# EAGLE library part LTC2804CGN-1#PBF (library circuit_tree)
IC
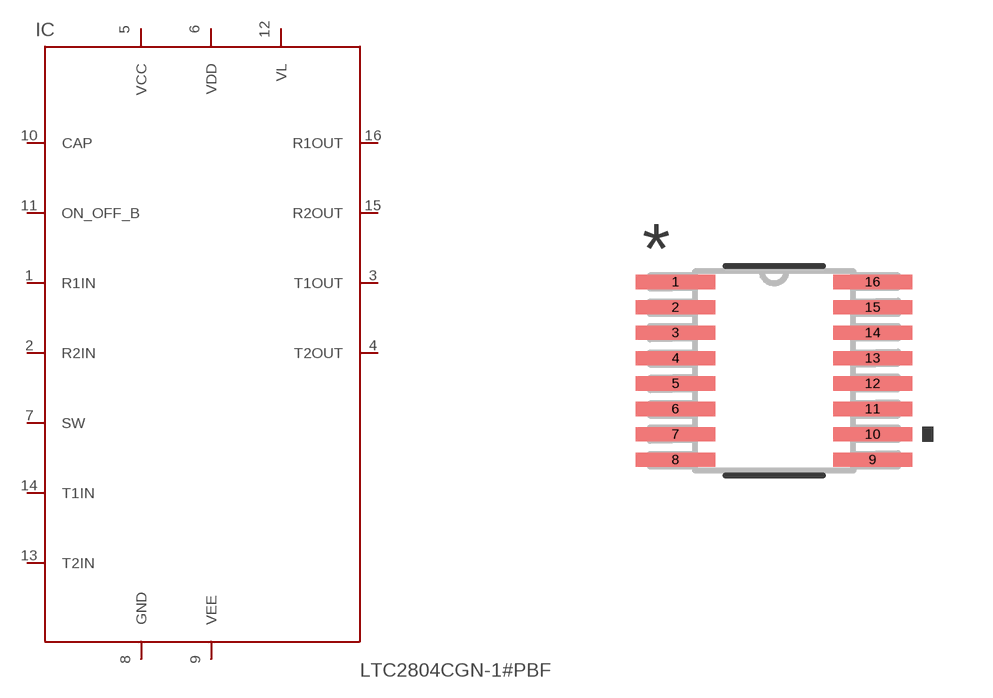
[diagram p3: symbol with the pads of SSOP-16; footprint SSOP-16]

Designator prefix IC

## LTC2804CGN-1#PBF  [SSOP-16]
1  R1IN  pas
2  R2IN  pas
3  T1OUT  pas
4  T2OUT  pas
5  VCC  pas
6  VDD  pas
7  SW  pas
8  GND  pas
9  VEE  pas
10  CAP  pas
11  ON_OFF_B  pas
12  VL  pas
13  T2IN  pas
14  T1IN  pas
15  R2OUT  pas
16  R1OUT  pas

## Footprint SSOP-16 (pad centres in mm)
smd 1.981 x 0.356: 1 -2.464,2.223; 2 -2.464,1.587; 3 -2.464,0.953; 4 -2.464,0.318; 5 -2.464,-0.318; 6 -2.464,-0.953; 7 -2.464,-1.587; 8 -2.464,-2.223; 9 2.464,-2.223; 10 2.464,-1.587; 11 2.464,-0.953; 12 2.464,-0.318; 13 2.464,0.318; 14 2.464,0.953; 15 2.464,1.587; 16 2.464,2.223